# EAGLE library part RKJXT1F42001 (library PP_Electromechanical)
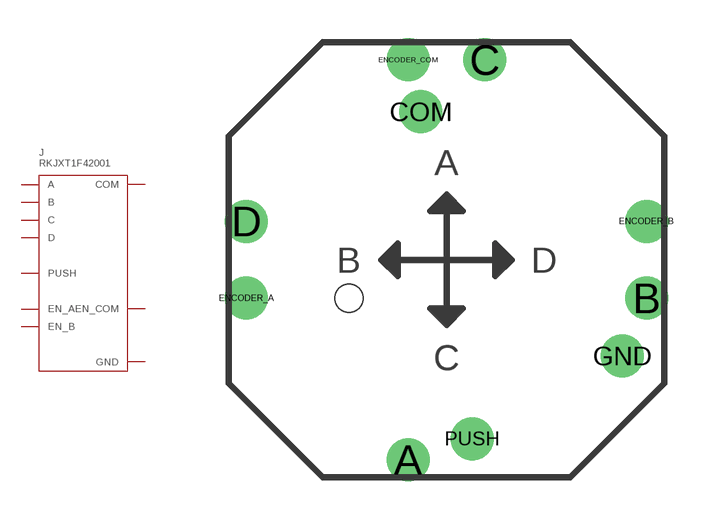
[diagram p7: symbol with the pads of RKJXT1F42001; footprint RKJXT1F42001]

Designator prefix J

## RKJXT1F42001  [RKJXT1F42001]
A  A
B  B
C  C
COM  COM
D  D
ENCODER_A  EN_A
ENCODER_B  EN_B
ENCODER_COM  EN_COM
GND  GND
PUSH  PUSH

## Footprint RKJXT1F42001 (pad centres in mm)
drill 1 pad 1.676: A -1.5,-7.8; B 7.8,-1.5; C 1.5,7.8; COM -1,5.78; D -7.8,1.5; ENCODER_A -7.8,-1.5; ENCODER_B 7.8,1.5; ENCODER_COM -1.5,7.8; GND 6.86,-3.75; PUSH 1,-6.98
hole 1.1 at -3.8,-1.5